# Altium integrated library Analog Devices Data Converters Analog-to-Digital Converters.IntLib: 2404 symbols (part 98 of 346)
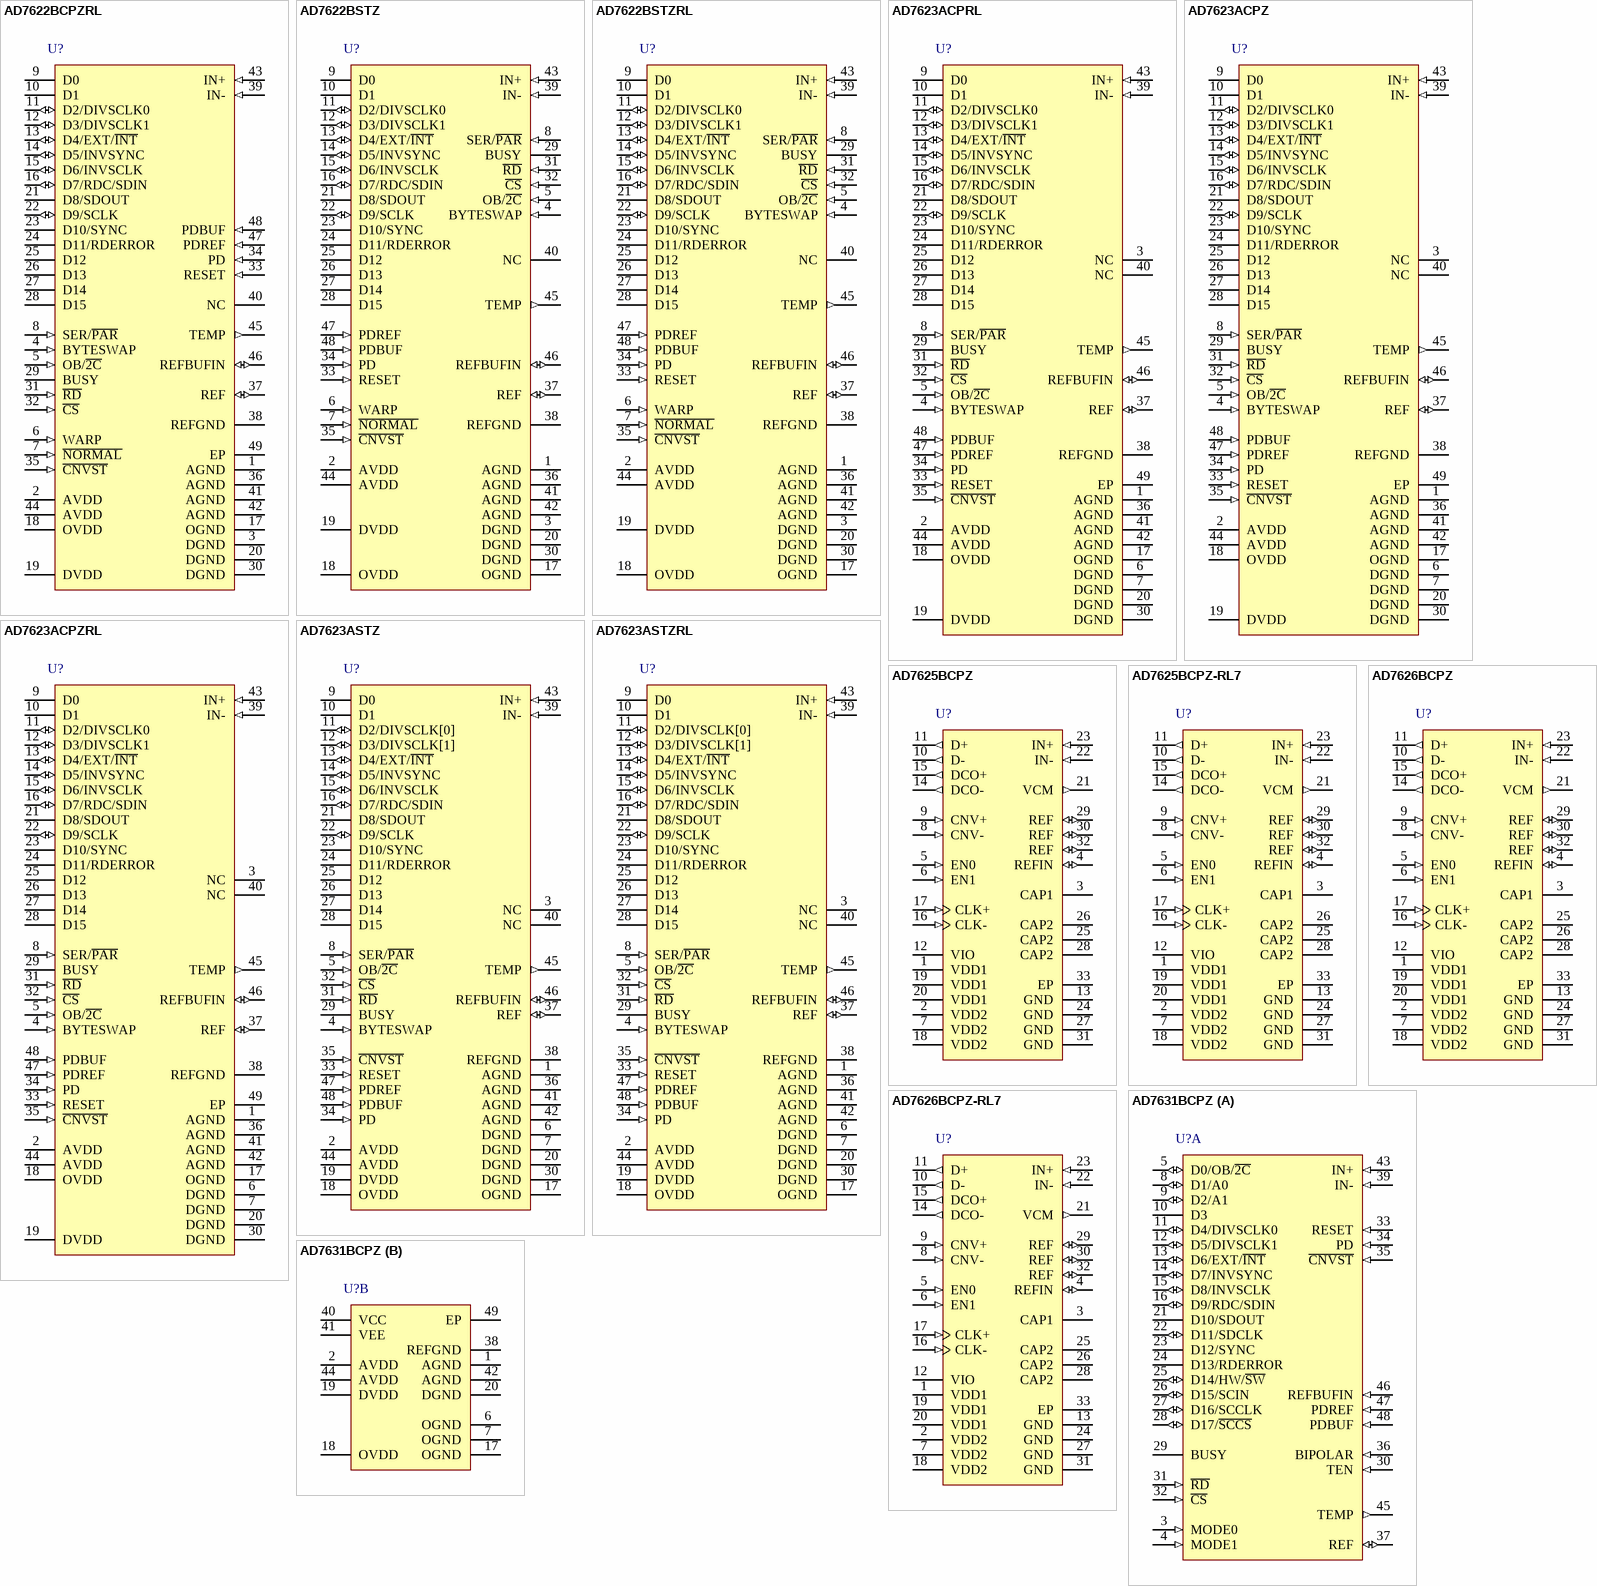
[diagram p209: symbols AD7622BCPZRL to AD7631BCPZ]

## AD7626BCPZ
designator U?
Single 16-Bit PulSAR Analog-to-Digital Converter with LVDS, Serial Interface, 10MSPS, -40 to +85 degC, CP-32-3, Pb-Free, Tray; Generic Part Number: AD7626; Manufacturer: Analog Devices; PartNumber: AD7626BCPZ; Resolution (Bits): 16; Channels: 1; Throughput Rate (SPS): 10M; DatasheetVersion: Rev.A; PackageVersion: Jan-2005; PackageReference: CP-32-3; PackageDescription: 32-Lead Lead Frame Chip Scale Package [LFCSP_VQ] 5 x 5 mm Body, Very Thin Quad; Supplier 1: Digi-Key; Supplier Part Number 1: AD7626BCPZ-ND; Supplier 2: Newark; Supplier Part Number 2: 33R2709; Supplier 3: Mouser; Supplier Part Number 3: 584-AD7626BCPZ; Interface: LVDS, Ser; RoHS: Y; Packing: Tray; Mounting Technology: Surface Mount; Code_JEDEC: MO-220-VHHD-2; ComponentLink1Description: Manufacturer URL; ComponentLink1URL: http://www.analog.com/en/index.html; ComponentLink2Description: Datasheet; ComponentLink2URL: http://www.analog.com/static/imported-files/data_sheets/AD7626.pdf; ComponentLink3Description: Package Specification; ComponentLink3URL: http://www.analog.com/static/imported-files/packages/32877413525511988CP_32_3.pdf; ComponentLink4Description: Product URL; ComponentLink4URL: http://www.analog.com/en/analog-to-digital-converters/ad-converters/ad7626/products/product.html
footprint CP-32-3_N (QFN, 32-Leads, Body 5x5mm, Pitch 0.5mm, Thermal Pad 3.3x3.3mm, IPC Medium Density)
footprint CP-32-3_L (QFN, 32-Leads, Body 5x5mm, Pitch 0.5mm, Thermal Pad 3.3x3.3mm, IPC High Density)
footprint CP-32-3_M (QFN, 32-Leads, Body 5x5mm, Pitch 0.5mm, Thermal Pad 3.3x3.3mm, IPC Low Density)
pins: 1 VDD1 (power) "Analog 5 V Supply. Decouple the 5 V supply with a 100 nF capacitor.", 2 VDD2 (power) "Analog 2.5 V Supply. Decouple this pin with a 100 nF capacitor. The 2.5 V supply source should", 3 CAP1 "Connect this pin to a 10 nF capacitor.", 4 REFIN (io) "Prebuffer Reference Voltage. When using the internal reference, this pin outputs the band gap voltage and is nominally at 1.2 V. It can be overdriven with an external reference voltage such as the ADR280.In either internal (See Datasheet)", 5 EN0 (in) "Enable. Operates from 2.5 V logic. The logic levels of these pins set the operation of the device as follows:EN1 = 0, EN0 = 0: power-down mode.EN1 = 0, EN0 = 1: external 1.2 V reference applied to the REFIN pin required.EN1 (See Datasheet)", 6 EN1 (in) "Enable. Operates from 2.5 V logic. The logic levels of these pins set the operation of the device as follows:EN1 = 0, EN0 = 0: power-down mode.EN1 = 0, EN0 = 1: external 1.2 V reference applied to the REFIN pin required.EN1 (See Datasheet)", 7 VDD2 (power) "Digital 2.5 V Supply. Decouple this pin with a 100 nF capacitor.", 8 CNV- (in) "Convert Input. These pins act as the conversion control pin. On the rising edge of these pins, the analog inputs are sampled and a conversion cycle is initiated. CNV+ works as a CMOS input when CNV- is grounded; otherwise, (See Datasheet)", 9 CNV+ (in) "Convert Input. These pins act as the conversion control pin. On the rising edge of these pins, the analog inputs are sampled and a conversion cycle is initiated. CNV+ works as a CMOS input when CNV- is grounded; otherwise, (See Datasheet)", 10 D- (out) "LVDS Data Outputs. The conversion data is output serially on these pins.", 11 D+ (out) "LVDS Data Outputs. The conversion data is output serially on these pins.", 12 VIO (power) "Input/Output Interface Supply. Use a 2.5 V supply and decouple this pin with a 100 nF capacitor.", 13 GND (power) "Ground. Return path for the 100 nF capacitor connected to Pin 12.", 14 DCO- (out) "LVDS Buffered Clock Outputs. When DCO+ is grounded, the self-clocked interface mode is selected.In this mode, the 16-bit results on D are preceded by an initial 0 (which is output at the end of the previous conversion), (See Datasheet)", 15 DCO+ (out) "LVDS Buffered Clock Outputs. When DCO+ is grounded, the self-clocked interface mode is selected.In this mode, the 16-bit results on D are preceded by an initial 0 (which is output at the end of the previous conversion), (See Datasheet)", 16 CLK- (in) "LVDS Clock Inputs. This clock shifts out the conversion results on the falling edge of CLK+.", 17 CLK+ (in) "LVDS Clock Inputs. This clock shifts out the conversion results on the falling edge of CLK+.", 18 VDD2 (power) "Analog 2.5 V Supply. Decouple this pin with a 100 nF capacitor.", 19 VDD1 (power) "Analog 5 V Supply. Isolate these pins from Pin 1 with a ferrite bead and decouple them with a 100 nF capacitor.", 20 VDD1 (power) "Analog 5 V Supply. Isolate these pins from Pin 1 with a ferrite bead and decouple them with a 100 nF capacitor.", 21 VCM (out) "Common-Mode Output. When using any reference scheme, this pin produces one-half the voltage present on the REF pin, which can be useful for driving the common mode of the input amplifiers.", 22 IN- (in) "Differential Negative Analog Input. Referenced to and must be driven 180degrees out of phase with IN+.", 23 IN+ (in) "Differential Positive Analog Input. Referenced to and must be driven 180degrees out of phase with IN-.", 24 GND (power) "Ground.", 25 CAP2 "Connect all three CAP2 pins together and decouple them with the shortest trace possible to a single 10 uF, low ESR, low ESL capacitor. The other side of the capacitor must be placed close to Pin 27 (GND).", 26 CAP2 "Connect all three CAP2 pins together and decouple them with the shortest trace possible to a single 10 uF, low ESR, low ESL capacitor. The other side of the capacitor must be placed close to Pin 27 (GND).", 27 GND (power) "Ground. Return path for the 10 uF capacitor connected to Pin 25, Pin 26, and Pin 28.", 28 CAP2 "Connect all three CAP2 pins together and decouple them with the shortest trace possible to a single 10 uF, low ESR, low ESL capacitor. The other side of the capacitor must be placed close to Pin 27 (GND).", 29 REF (io) "Buffered Reference Voltage. When using the internal reference or the 1.2 V external reference (REFIN input), the 4.096 V system reference is produced at this pin. When using an external reference, such as the ADR434 or the (See Datasheet)", 30 REF (io) "Buffered Reference Voltage. When using the internal reference or the 1.2 V external reference (REFIN input), the 4.096 V system reference is produced at this pin. When using an external reference, such as the ADR434 or the (See Datasheet)", 31 GND (power) "Ground. Return path for the 10 uF capacitor connected to Pin 29, Pin 30, and Pin 32.", 32 REF (io) "Buffered Reference Voltage. When using the internal reference or the 1.2 V external reference (REFIN input), the 4.096 V system reference is produced at this pin. When using an external reference, such as the ADR434 or the (See Datasheet)", 33 EP (power) "The exposed pad is located on the underside of the package. Connect the exposed pad to the ground plane of the PCB using multiple vias. See the Exposed Paddle section for more information."

## AD7626BCPZ-RL7
designator U?
Single 16-Bit PulSAR Analog-to-Digital Converter with LVDS, Serial Interface, 10MSPS, -40 to +85 degC, CP-32-3, Pb-Free, Reel; Generic Part Number: AD7626; Manufacturer: Analog Devices; PartNumber: AD7626BCPZ-RL7; Resolution (Bits): 16; Channels: 1; Throughput Rate (SPS): 10M; DatasheetVersion: Rev.A; PackageVersion: Jan-2005; PackageReference: CP-32-3; PackageDescription: 32-Lead Lead Frame Chip Scale Package [LFCSP_VQ] 5 x 5 mm Body, Very Thin Quad; Supplier 1: Digi-Key; Supplier Part Number 1: AD7626BCPZ-RL7-ND; Supplier 2: Newark; Supplier Part Number 2: 33R2710; Supplier 3: Mouser; Supplier Part Number 3: 584-AD7626BCPZ-R7; Interface: LVDS, Ser; RoHS: Y; Packing: Reel; Mounting Technology: Surface Mount; Code_JEDEC: MO-220-VHHD-2; ComponentLink1Description: Manufacturer URL; ComponentLink1URL: http://www.analog.com/en/index.html; ComponentLink2Description: Datasheet; ComponentLink2URL: http://www.analog.com/static/imported-files/data_sheets/AD7626.pdf; ComponentLink3Description: Package Specification; ComponentLink3URL: http://www.analog.com/static/imported-files/packages/32877413525511988CP_32_3.pdf; ComponentLink4Description: Product URL; ComponentLink4URL: http://www.analog.com/en/analog-to-digital-converters/ad-converters/ad7626/products/product.html
footprint CP-32-3_N (QFN, 32-Leads, Body 5x5mm, Pitch 0.5mm, Thermal Pad 3.3x3.3mm, IPC Medium Density)
footprint CP-32-3_L (QFN, 32-Leads, Body 5x5mm, Pitch 0.5mm, Thermal Pad 3.3x3.3mm, IPC High Density)
footprint CP-32-3_M (QFN, 32-Leads, Body 5x5mm, Pitch 0.5mm, Thermal Pad 3.3x3.3mm, IPC Low Density)
pins: 1 VDD1 (power) "Analog 5 V Supply. Decouple the 5 V supply with a 100 nF capacitor.", 2 VDD2 (power) "Analog 2.5 V Supply. Decouple this pin with a 100 nF capacitor. The 2.5 V supply source should", 3 CAP1 "Connect this pin to a 10 nF capacitor.", 4 REFIN (io) "Prebuffer Reference Voltage. When using the internal reference, this pin outputs the band gap voltage and is nominally at 1.2 V. It can be overdriven with an external reference voltage such as the ADR280.In either internal (See Datasheet)", 5 EN0 (in) "Enable. Operates from 2.5 V logic. The logic levels of these pins set the operation of the device as follows:EN1 = 0, EN0 = 0: power-down mode.EN1 = 0, EN0 = 1: external 1.2 V reference applied to the REFIN pin required.EN1 (See Datasheet)", 6 EN1 (in) "Enable. Operates from 2.5 V logic. The logic levels of these pins set the operation of the device as follows:EN1 = 0, EN0 = 0: power-down mode.EN1 = 0, EN0 = 1: external 1.2 V reference applied to the REFIN pin required.EN1 (See Datasheet)", 7 VDD2 (power) "Digital 2.5 V Supply. Decouple this pin with a 100 nF capacitor.", 8 CNV- (in) "Convert Input. These pins act as the conversion control pin. On the rising edge of these pins, the analog inputs are sampled and a conversion cycle is initiated. CNV+ works as a CMOS input when CNV- is grounded; otherwise, (See Datasheet)", 9 CNV+ (in) "Convert Input. These pins act as the conversion control pin. On the rising edge of these pins, the analog inputs are sampled and a conversion cycle is initiated. CNV+ works as a CMOS input when CNV- is grounded; otherwise, (See Datasheet)", 10 D- (out) "LVDS Data Outputs. The conversion data is output serially on these pins.", 11 D+ (out) "LVDS Data Outputs. The conversion data is output serially on these pins.", 12 VIO (power) "Input/Output Interface Supply. Use a 2.5 V supply and decouple this pin with a 100 nF capacitor.", 13 GND (power) "Ground. Return path for the 100 nF capacitor connected to Pin 12.", 14 DCO- (out) "LVDS Buffered Clock Outputs. When DCO+ is grounded, the self-clocked interface mode is selected.In this mode, the 16-bit results on D are preceded by an initial 0 (which is output at the end of the previous conversion), (See Datasheet)", 15 DCO+ (out) "LVDS Buffered Clock Outputs. When DCO+ is grounded, the self-clocked interface mode is selected.In this mode, the 16-bit results on D are preceded by an initial 0 (which is output at the end of the previous conversion), (See Datasheet)", 16 CLK- (in) "LVDS Clock Inputs. This clock shifts out the conversion results on the falling edge of CLK+.", 17 CLK+ (in) "LVDS Clock Inputs. This clock shifts out the conversion results on the falling edge of CLK+.", 18 VDD2 (power) "Analog 2.5 V Supply. Decouple this pin with a 100 nF capacitor.", 19 VDD1 (power) "Analog 5 V Supply. Isolate these pins from Pin 1 with a ferrite bead and decouple them with a 100 nF capacitor.", 20 VDD1 (power) "Analog 5 V Supply. Isolate these pins from Pin 1 with a ferrite bead and decouple them with a 100 nF capacitor.", 21 VCM (out) "Common-Mode Output. When using any reference scheme, this pin produces one-half the voltage present on the REF pin, which can be useful for driving the common mode of the input amplifiers.", 22 IN- (in) "Differential Negative Analog Input. Referenced to and must be driven 180degrees out of phase with IN+.", 23 IN+ (in) "Differential Positive Analog Input. Referenced to and must be driven 180degrees out of phase with IN-.", 24 GND (power) "Ground.", 25 CAP2 "Connect all three CAP2 pins together and decouple them with the shortest trace possible to a single 10 uF, low ESR, low ESL capacitor. The other side of the capacitor must be placed close to Pin 27 (GND).", 26 CAP2 "Connect all three CAP2 pins together and decouple them with the shortest trace possible to a single 10 uF, low ESR, low ESL capacitor. The other side of the capacitor must be placed close to Pin 27 (GND).", 27 GND (power) "Ground. Return path for the 10 uF capacitor connected to Pin 25, Pin 26, and Pin 28.", 28 CAP2 "Connect all three CAP2 pins together and decouple them with the shortest trace possible to a single 10 uF, low ESR, low ESL capacitor. The other side of the capacitor must be placed close to Pin 27 (GND).", 29 REF (io) "Buffered Reference Voltage. When using the internal reference or the 1.2 V external reference (REFIN input), the 4.096 V system reference is produced at this pin. When using an external reference, such as the ADR434 or the (See Datasheet)", 30 REF (io) "Buffered Reference Voltage. When using the internal reference or the 1.2 V external reference (REFIN input), the 4.096 V system reference is produced at this pin. When using an external reference, such as the ADR434 or the (See Datasheet)", 31 GND (power) "Ground. Return path for the 10 uF capacitor connected to Pin 29, Pin 30, and Pin 32.", 32 REF (io) "Buffered Reference Voltage. When using the internal reference or the 1.2 V external reference (REFIN input), the 4.096 V system reference is produced at this pin. When using an external reference, such as the ADR434 or the (See Datasheet)", 33 EP (power) "The exposed pad is located on the underside of the package. Connect the exposed pad to the ground plane of the PCB using multiple vias. See the Exposed Paddle section for more information."

## AD7631BCPZ
designator U?
Single 18-Bit Differential Programmable PulSAR Analog-to-Digital Converter with Parallel, Serial, SPI Interface, 250KSPS, -40 to +85 degC, CP-48-1, Pb-Free, Tray; Generic Part Number: AD7631; Manufacturer: Analog Devices; PartNumber: AD7631BCPZ; Resolution (Bits): 18; Channels: 1; Throughput Rate (SPS): 250K; Interface: Par, Ser, SPI; DatasheetVersion: Rev.A; PackageVersion: Jan-2005; PackageReference: CP-48-1; PackageDescription: 48-Lead Lead Frame Chip Scale Package [LFCSP_VQ] 7 x 7 mm Body, Very Thin Quad; Supplier 1: Digi-Key; Supplier Part Number 1: AD7631BCPZ-ND; Supplier 2: Mouser; Supplier Part Number 2: 584-AD7631BCPZ; RoHS: Y; Packing: Tray; Mounting Technology: Surface Mount; Code_JEDEC: MO-220-VKKD-2; ComponentLink1Description: Manufacturer URL; ComponentLink1URL: http://www.analog.com/en/index.html; ComponentLink2Description: Datasheet; ComponentLink2URL: http://www.analog.com/static/imported-files/data_sheets/AD7631.pdf; ComponentLink3Description: Package Specification; ComponentLink3URL: http://www.analog.com/static/imported-files/packages/PKG_PDF/LFCSP(CP)/CP-48/CP_48_1.pdf; ComponentLink4Description: Product URL; ComponentLink4URL: http://www.analog.com/en/analog-to-digital-converters/ad-converters/ad7631/products/product.html
footprint CP-48-1_N (QFN, 48-Leads, Body 7x7mm, Pitch 0.5mm, Thermal Pad 5.1x5.1mm, IPC Medium Density)
footprint CP-48-1_L (QFN, 48-Leads, Body 7x7mm, Pitch 0.5mm, Thermal Pad 5.1x5.1mm, IPC High Density)
footprint CP-48-1_M (QFN, 48-Leads, Body 7x7mm, Pitch 0.5mm, Thermal Pad 5.1x5.1mm, IPC Low Density)
part A pins: 3 MODE0 (in) "Data Input/Output Interface Mode Selection.", 4 MODE1 (in) "Data Input/Output Interface Mode Selection.", 5 D0/OB/~{2C} (io) "In 18-bit parallel mode, this output is used as Bit 0 of the parallel port data output bus, and the data  coding is straight binary. In all other modes, this pin allows the choice of straight binary or twos  complement.   (See Datasheet)", 8 D1/A0 (io) "When MODE[1:0] = 0, this pin is Bit 1 of the parallel port data output bus. In all other modes, this input pin controls the form in which data is output as shown in Table 7.", 9 D2/A1 (io) "When MODE[1:0] = 0, this pin is Bit 2 of the parallel port data output bus.  When MODE[1:0] = 1 or 2, this input pin controls the form in which data is output as shown in Table 7.", 10 D3 (hiz) "When MODE[1:0] = 0, 1, or 2, this output is used as Bit 3 of the parallel port data output bus. This pin is always an output, regardless of the interface mode.", 11 D4/DIVSCLK0 (io) "When MODE[1:0] = 0, 1, or 2, this pin is Bit 4 of the parallel port data output bus.When MODE[1:0] = 3, serial data clock division selection. When using serial master read after convert  mode (EXT/I\N\T\ = low, RDC/SDIN = (See Datasheet)", 12 D5/DIVSCLK1 (io) "When MODE[1:0] = 0, 1, or 2, this pin is Bit 5 of the parallel port data output bus.When MODE[1:0] = 3, serial data clock division selection. When using serial master read after convert  mode (EXT/I\N\T\ = low, RDC/SDIN = (See Datasheet)", 13 D6/EXT/~{INT} (io) "When MODE[1:0] = 0, 1, or 2, this output is used as Bit 6 of the parallel port data output bus.When MODE[1:0] = 3, Serial Data Clock Source Select. In serial mode, this input is used to select the  internally generated (See Datasheet)", 14 D7/INVSYNC (io) "When MODE[1:0] = 0, 1, or 2, this output is used as Bit 7 of the parallel port data output bus.When MODE[1:0] = 3, Serial Data Invert Sync Select. In serial master mode (MODE[1:0] = 3,   EXT/I\N\T\ = low), this input is used (See Datasheet)", 15 D8/INVSCLK (io) "When MODE[1:0] = 0, 1, or 2, this output is used as Bit 8 of the parallel port data output bus. When MODE[1:0] = 3, Invert SDCLK/SCCLK Select. This input is used to invert both SDCLK and SCCLK. When INVSCLK = low, the rising (See Datasheet)", 16 D9/RDC/SDIN (io) "When MODE[1:0] = 0, 1, or 2, this output is used as Bit 9 of the parallel port data output bus. When MODE[1:0] = 3, Serial Data Read During Convert. In serial master mode (MODE[1:0] = 3, EXT/I\N\T\ = low), RDC is used to (See Datasheet)", 21 D10/SDOUT (hiz) "When MODE[1:0] = 0, 1, or 2, this output is used as Bit 10 of the parallel port data output bus.When MODE[1:0] = 3, Serial Data Output. In all serial modes, this pin is used as the serial data output synchronized to SDCLK. (See Datasheet)", 22 D11/SDCLK (io) "When MODE[1:0] = 0, 1, or 2, this output is used as Bit 11 of the parallel port data output bus. When MODE[1:0] = 3, Serial Data Clock. In all serial modes, this pin is used as the serial data clock input or output, (See Datasheet)", 23 D12/SYNC (hiz) "When MODE[1:0] = 0, 1, or 2, this output is used as Bit 12 of the parallel port data output bus. When MODE[1:0] = 3, Serial Data Frame Synchronization. In serial master mode (MODE[1:0] = 3, EXT/I\N\T\= low), this output is (See Datasheet)", 24 D13/RDERROR (hiz) "When MODE[1:0] = 0, 1, or 2, this output is used as Bit 13 of the parallel port data output bus. When MODE[1:0] = 3, Serial Data Read Error. In serial slave mode (MODE[1:0] = 3, EXT/I\N\T\ = high), this output is used as an (See Datasheet)", 25 D14/HW/~{SW} (io) "When MODE[1:0] = 0, 1, or 2, this output is used as Bit 14 of the parallel port data output bus. When MODE[1:0] = 3, Serial Configuration Hardware/Software Select. In serial mode, this input is used to configure the AD7631 (See Datasheet)", 26 D15/SCIN (io) "When MODE[1:0] = 0, 1, or 2, this output is used as Bit 15 of the parallel port data output bus. When MODE[1:0] = 3, Serial Configuration Data Input. In serial software configuration mode (HW/S\W\ = low), this input is used (See Datasheet)", 27 D16/SCCLK (io) "When MODE[1:0] = 0, 1, or 2, this output is used as Bit 16 of the parallel port data output bus. When MODE[1:0] = 3, Serial Configuration Clock. In serial software configuration mode (HW/S\W\ = low) this input is used to (See Datasheet)", 28 D17/~{SCCS} (io) "When MODE[1:0] = 0, 1, or 2, this output is used as Bit 17 of the parallel port data output bus. When MODE[1:0] = 3, Serial Configuration Chip Select. In serial software configuration mode (HW/S\W\ = low), this input enables (See Datasheet)", 29 BUSY (hiz) "Busy Output. Transitions high when a conversion is started and remains high until the conversion is complete and the data is latched into the on-chip shift register. The falling edge of BUSY can be used as a data-ready clock (See Datasheet)", 30 TEN (in) "Input Range Select. Used in conjunction with BIPOLAR per the following.", 31 ~{RD} (in) "Read Data. When C\S\ and R\D\ are both low, the interface parallel or serial output bus is enabled.", 32 ~{CS} (in) "Chip Select. When C\S\ and R\D\ are both low, the interface parallel or serial output bus is enabled. C\S\ is also used to gate the external clock in slave serial mode (not used for serial configurable port).", 33 RESET (in) "Reset Input. When high, reset the AD7631. Current conversion, if any, is aborted. The falling edge of RESET resets the data outputs to all zeros (with OB/2\C\ = high) and clears the configuration register. See the section. (See Datasheet)", 34 PD (in) "Power-Down Input. When PD = high, power down the ADC. Power consumption is reduced and conversions are inhibited after the current one is completed. The digital interface remains active during power down.", 35 ~{CNVST} (in) "Conversion Start. A falling edge on C\N\V\S\T\ puts the internal sample-and-hold into the hold state and initiates a conversion.", 36 BIPOLAR (in) "Input Range Select. See description for Pin 30.", 37 REF (io) "Reference Input/Output. When PDREF/PDBUF = low, the internal reference and buffer are enabled producing 5 V on this pin. When PDREF/PDBUF = high, the internal reference and buffer are disabled, allowing an externally (See Datasheet)", 39 IN- (in) "Analog Input. Referenced to IN+. In the 0 V to 5 V input range, IN- is between 0 V and VREF V centered about VREF/2. In the 0 V to 10 V range, IN- is between 0 V and 2 VREF V centered about VREF. In the +/-5 V and +/-10 V (See Datasheet)", 43 IN+ (in) "Analog Input. Referenced to IN-. In the 0 V to 5 V input range, IN+ is between 0 V and VREF V centered about VREF/2. In the 0 V to 10 V range, IN+ is between 0 V and 2 VREF V centered about VREF. In the +/-5 V and +/-10 V (See Datasheet)", 45 TEMP (out) "Temperature Sensor Analog Output. When the internal reference is enabled (PDREF = PDBUF = low), this pin outputs a voltage proportional to the temperature of the AD7631. See the Voltage Reference Input/Output section.", 46 REFBUFIN (in) "Reference Buffer Input. When using an external reference with the internal reference buffer (PDBUF = low, PDREF = high), applying 2.5 V on this pin produces 5 V on the REF pin. See the Voltage Reference Input/Output section.", 47 PDREF (in) "Internal Reference Power-Down Input. When low, the internal reference is enabled. When high, the internal reference is powered down, and an external reference must be used.", 48 PDBUF (in) "Internal Reference Buffer Power-Down Input. When low, the buffer is enabled (must be low when using internal reference). When high, the buffer is powered down."
part B pins: 1 AGND (power) "Analog Power Ground Pins. Ground reference point for all analog I/O. All analog I/O should be  referenced to AGND and should be connected to the analog ground plane of the system. In addition,   the AGND, DGND, and OGND (See Datasheet)", 2 AVDD (power) "Analog Power Pins. Nominally 4.75 V to 5.25 V and decoupled with 10 uF and 100 nF capacitors.", 6 OGND (power) "Input/Output Interface Digital Power Ground. Ground reference point for digital outputs. Should be connected to the system digital ground ideally at the same potential as AGND and DGND.", 7 OGND (power) "Input/Output Interface Digital Power Ground. Ground reference point for digital outputs. Should be connected to the system digital ground ideally at the same potential as AGND and DGND.", 17 OGND (power) "Input/Output Interface Digital Power Ground. Ground reference point for digital outputs. Should   be connected to the system digital ground ideally at the same potential as AGND and DGND.", 18 OVDD (power) "Input/Output Interface Digital Power. Nominally at the same supply as the supply of the host interface 2.5 V, 3 V, or 5 V and decoupled with 10 uF and 100 nF capacitors.", 19 DVDD (power) "Digital Power. Nominally at 4.75 V to 5.25 V and decoupled with 10 uF and 100 nF capacitors. Can be supplied from AVDD.", 20 DGND (power) "Digital Power Ground. Ground reference point for digital outputs. Should be connected to system digital ground ideally at the same potential as AGND and OGND.", 38 REFGND (power) "Reference Input Analog Ground. Connected to analog ground plane.", 40 VCC (power) "High Voltage Positive Supply. Normally +7 V to +15 V.", 41 VEE (power) "High Voltage Negative Supply. Normally 0 V to -15 V (0 V in unipolar ranges).", 42 AGND (power) "Analog Power Ground Pins. Ground reference point for all analog I/O. All analog I/O should be  referenced to AGND and should be connected to the analog ground plane of the system. In addition,   the AGND, DGND, and OGND (See Datasheet)", 44 AVDD (power) "Analog Power Pins. Nominally 4.75 V to 5.25 V and decoupled with 10 uF and 100 nF capacitors.", 49 EP (power) "Exposed Pad. The exposed pad is not connected internally. It is recommended that the pad be soldered to VEE."

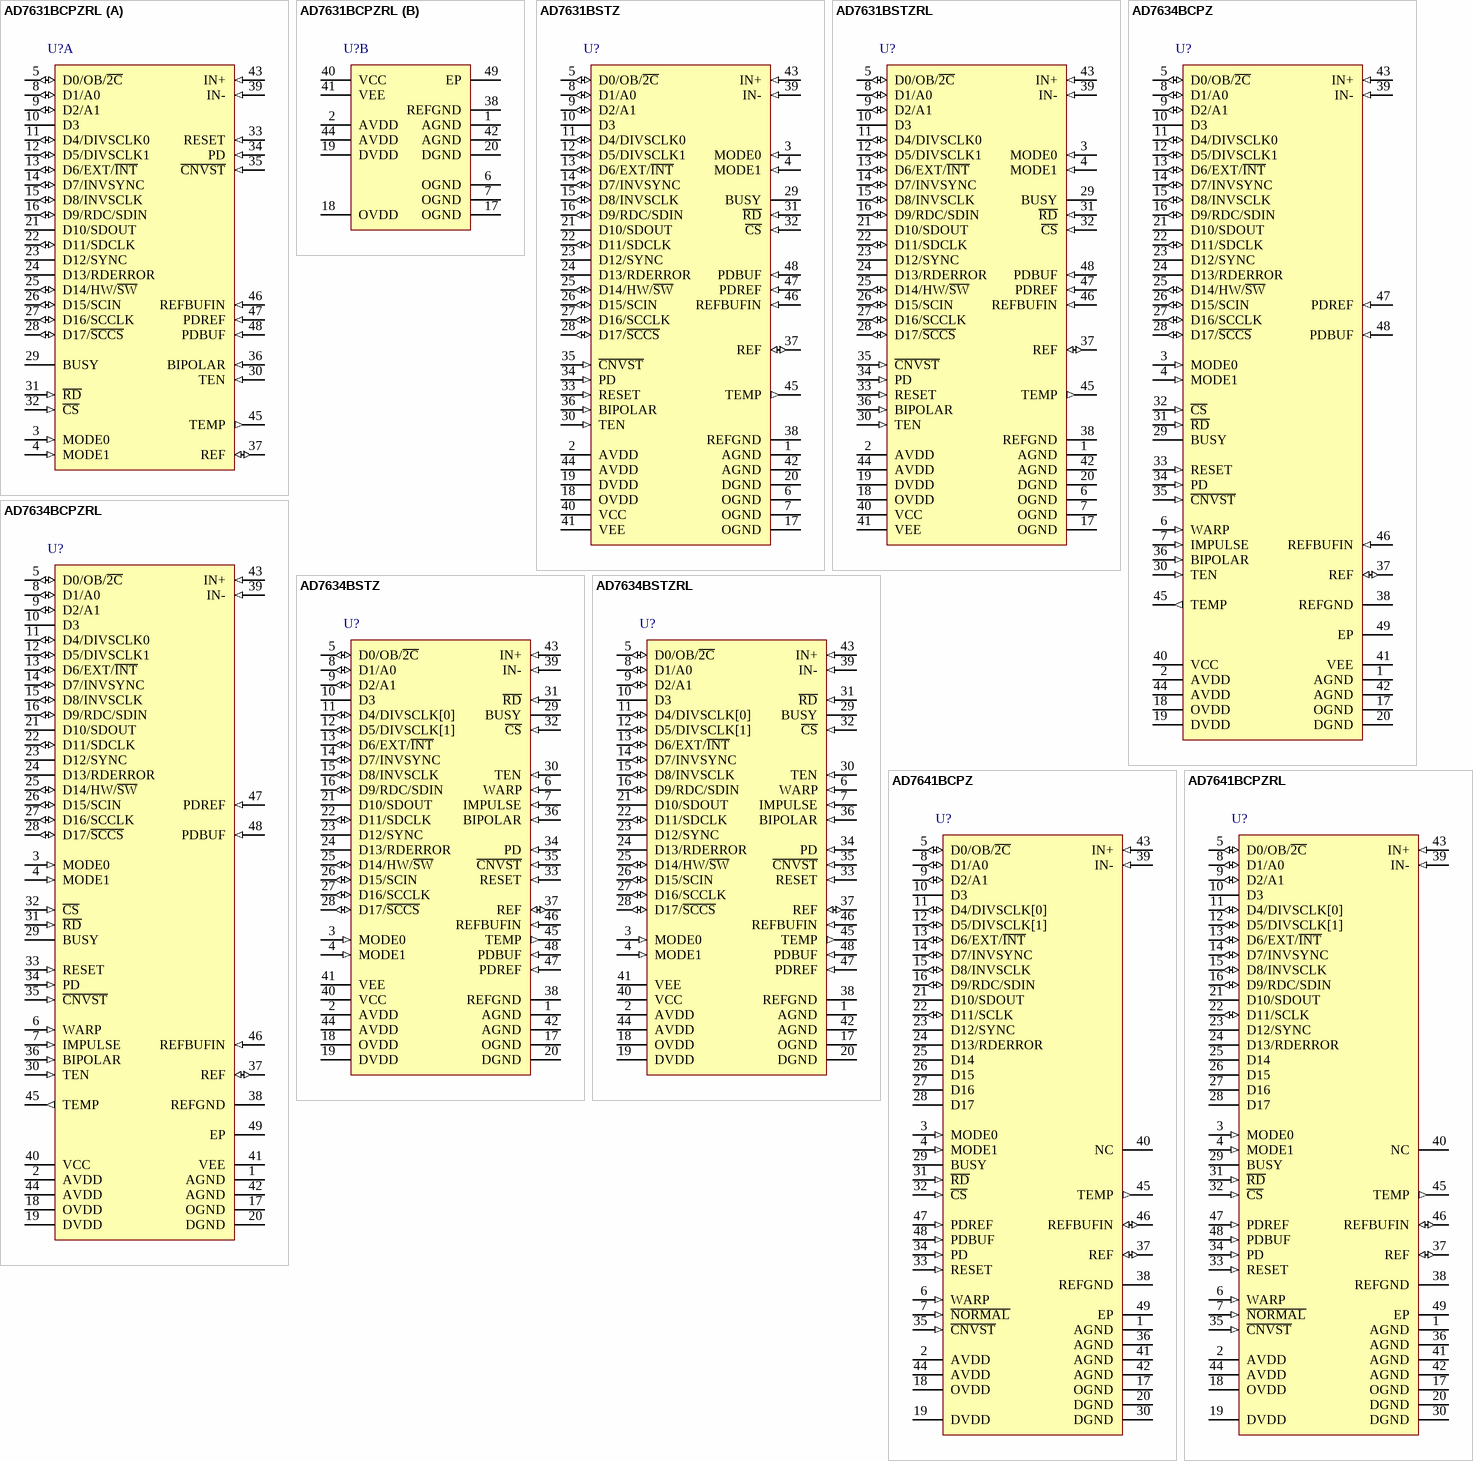
[diagram p32: symbols AD7631BCPZRL to AD7641BCPZRL]

## AD7631BCPZRL
designator U?
Single 18-Bit Differential Programmable PulSAR Analog-to-Digital Converter with Parallel, Serial, SPI Interface, 250KSPS, -40 to +85 degC, CP-48-1, Pb-Free, Reel; Generic Part Number: AD7631; Manufacturer: Analog Devices; PartNumber: AD7631BCPZRL; Resolution (Bits): 18; Channels: 1; Throughput Rate (SPS): 250K; Interface: Par, Ser, SPI; DatasheetVersion: Rev.A; PackageVersion: Jan-2005; PackageReference: CP-48-1; PackageDescription: 48-Lead Lead Frame Chip Scale Package [LFCSP_VQ] 7 x 7 mm Body, Very Thin Quad; Supplier 1: Digi-Key; Supplier Part Number 1: AD7631BCPZRL-ND; Supplier 2: Mouser; Supplier Part Number 2: 584-AD7631BCPZR; RoHS: Y; Packing: Reel; Mounting Technology: Surface Mount; Code_JEDEC: MO-220-VKKD-2; ComponentLink1Description: Manufacturer URL; ComponentLink1URL: http://www.analog.com/en/index.html; ComponentLink2Description: Datasheet; ComponentLink2URL: http://www.analog.com/static/imported-files/data_sheets/AD7631.pdf; ComponentLink3Description: Package Specification; ComponentLink3URL: http://www.analog.com/static/imported-files/packages/PKG_PDF/LFCSP(CP)/CP-48/CP_48_1.pdf; ComponentLink4Description: Product URL; ComponentLink4URL: http://www.analog.com/en/analog-to-digital-converters/ad-converters/ad7631/products/product.html
footprint CP-48-1_N (QFN, 48-Leads, Body 7x7mm, Pitch 0.5mm, Thermal Pad 5.1x5.1mm, IPC Medium Density)
footprint CP-48-1_L (QFN, 48-Leads, Body 7x7mm, Pitch 0.5mm, Thermal Pad 5.1x5.1mm, IPC High Density)
footprint CP-48-1_M (QFN, 48-Leads, Body 7x7mm, Pitch 0.5mm, Thermal Pad 5.1x5.1mm, IPC Low Density)
part A pins: 3 MODE0 (in) "Data Input/Output Interface Mode Selection.", 4 MODE1 (in) "Data Input/Output Interface Mode Selection.", 5 D0/OB/~{2C} (io) "In 18-bit parallel mode, this output is used as Bit 0 of the parallel port data output bus, and the data  coding is straight binary. In all other modes, this pin allows the choice of straight binary or twos  complement.   (See Datasheet)", 8 D1/A0 (io) "When MODE[1:0] = 0, this pin is Bit 1 of the parallel port data output bus. In all other modes, this input pin controls the form in which data is output as shown in Table 7.", 9 D2/A1 (io) "When MODE[1:0] = 0, this pin is Bit 2 of the parallel port data output bus.  When MODE[1:0] = 1 or 2, this input pin controls the form in which data is output as shown in Table 7.", 10 D3 (hiz) "When MODE[1:0] = 0, 1, or 2, this output is used as Bit 3 of the parallel port data output bus. This pin is always an output, regardless of the interface mode.", 11 D4/DIVSCLK0 (io) "When MODE[1:0] = 0, 1, or 2, this pin is Bit 4 of the parallel port data output bus.When MODE[1:0] = 3, serial data clock division selection. When using serial master read after convert  mode (EXT/I\N\T\ = low, RDC/SDIN = (See Datasheet)", 12 D5/DIVSCLK1 (io) "When MODE[1:0] = 0, 1, or 2, this pin is Bit 5 of the parallel port data output bus.When MODE[1:0] = 3, serial data clock division selection. When using serial master read after convert  mode (EXT/I\N\T\ = low, RDC/SDIN = (See Datasheet)", 13 D6/EXT/~{INT} (io) "When MODE[1:0] = 0, 1, or 2, this output is used as Bit 6 of the parallel port data output bus.When MODE[1:0] = 3, Serial Data Clock Source Select. In serial mode, this input is used to select the  internally generated (See Datasheet)", 14 D7/INVSYNC (io) "When MODE[1:0] = 0, 1, or 2, this output is used as Bit 7 of the parallel port data output bus.When MODE[1:0] = 3, Serial Data Invert Sync Select. In serial master mode (MODE[1:0] = 3,   EXT/I\N\T\ = low), this input is used (See Datasheet)", 15 D8/INVSCLK (io) "When MODE[1:0] = 0, 1, or 2, this output is used as Bit 8 of the parallel port data output bus. When MODE[1:0] = 3, Invert SDCLK/SCCLK Select. This input is used to invert both SDCLK and SCCLK. When INVSCLK = low, the rising (See Datasheet)", 16 D9/RDC/SDIN (io) "When MODE[1:0] = 0, 1, or 2, this output is used as Bit 9 of the parallel port data output bus. When MODE[1:0] = 3, Serial Data Read During Convert. In serial master mode (MODE[1:0] = 3, EXT/I\N\T\ = low), RDC is used to (See Datasheet)", 21 D10/SDOUT (hiz) "When MODE[1:0] = 0, 1, or 2, this output is used as Bit 10 of the parallel port data output bus.When MODE[1:0] = 3, Serial Data Output. In all serial modes, this pin is used as the serial data output synchronized to SDCLK. (See Datasheet)", 22 D11/SDCLK (io) "When MODE[1:0] = 0, 1, or 2, this output is used as Bit 11 of the parallel port data output bus. When MODE[1:0] = 3, Serial Data Clock. In all serial modes, this pin is used as the serial data clock input or output, (See Datasheet)", 23 D12/SYNC (hiz) "When MODE[1:0] = 0, 1, or 2, this output is used as Bit 12 of the parallel port data output bus. When MODE[1:0] = 3, Serial Data Frame Synchronization. In serial master mode (MODE[1:0] = 3, EXT/I\N\T\= low), this output is (See Datasheet)", 24 D13/RDERROR (hiz) "When MODE[1:0] = 0, 1, or 2, this output is used as Bit 13 of the parallel port data output bus. When MODE[1:0] = 3, Serial Data Read Error. In serial slave mode (MODE[1:0] = 3, EXT/I\N\T\ = high), this output is used as an (See Datasheet)", 25 D14/HW/~{SW} (io) "When MODE[1:0] = 0, 1, or 2, this output is used as Bit 14 of the parallel port data output bus. When MODE[1:0] = 3, Serial Configuration Hardware/Software Select. In serial mode, this input is used to configure the AD7631 (See Datasheet)", 26 D15/SCIN (io) "When MODE[1:0] = 0, 1, or 2, this output is used as Bit 15 of the parallel port data output bus. When MODE[1:0] = 3, Serial Configuration Data Input. In serial software configuration mode (HW/S\W\ = low), this input is used (See Datasheet)", 27 D16/SCCLK (io) "When MODE[1:0] = 0, 1, or 2, this output is used as Bit 16 of the parallel port data output bus. When MODE[1:0] = 3, Serial Configuration Clock. In serial software configuration mode (HW/S\W\ = low) this input is used to (See Datasheet)", 28 D17/~{SCCS} (io) "When MODE[1:0] = 0, 1, or 2, this output is used as Bit 17 of the parallel port data output bus. When MODE[1:0] = 3, Serial Configuration Chip Select. In serial software configuration mode (HW/S\W\ = low), this input enables (See Datasheet)", 29 BUSY (hiz) "Busy Output. Transitions high when a conversion is started and remains high until the conversion is complete and the data is latched into the on-chip shift register. The falling edge of BUSY can be used as a data-ready clock (See Datasheet)", 30 TEN (in) "Input Range Select. Used in conjunction with BIPOLAR per the following.", 31 ~{RD} (in) "Read Data. When C\S\ and R\D\ are both low, the interface parallel or serial output bus is enabled.", 32 ~{CS} (in) "Chip Select. When C\S\ and R\D\ are both low, the interface parallel or serial output bus is enabled. C\S\ is also used to gate the external clock in slave serial mode (not used for serial configurable port).", 33 RESET (in) "Reset Input. When high, reset the AD7631. Current conversion, if any, is aborted. The falling edge of RESET resets the data outputs to all zeros (with OB/2\C\ = high) and clears the configuration register. See the section. (See Datasheet)", 34 PD (in) "Power-Down Input. When PD = high, power down the ADC. Power consumption is reduced and conversions are inhibited after the current one is completed. The digital interface remains active during power down.", 35 ~{CNVST} (in) "Conversion Start. A falling edge on C\N\V\S\T\ puts the internal sample-and-hold into the hold state and initiates a conversion.", 36 BIPOLAR (in) "Input Range Select. See description for Pin 30.", 37 REF (io) "Reference Input/Output. When PDREF/PDBUF = low, the internal reference and buffer are enabled producing 5 V on this pin. When PDREF/PDBUF = high, the internal reference and buffer are disabled, allowing an externally (See Datasheet)", 39 IN- (in) "Analog Input. Referenced to IN+. In the 0 V to 5 V input range, IN- is between 0 V and VREF V centered about VREF/2. In the 0 V to 10 V range, IN- is between 0 V and 2 VREF V centered about VREF. In the +/-5 V and +/-10 V (See Datasheet)", 43 IN+ (in) "Analog Input. Referenced to IN-. In the 0 V to 5 V input range, IN+ is between 0 V and VREF V centered about VREF/2. In the 0 V to 10 V range, IN+ is between 0 V and 2 VREF V centered about VREF. In the +/-5 V and +/-10 V (See Datasheet)", 45 TEMP (out) "Temperature Sensor Analog Output. When the internal reference is enabled (PDREF = PDBUF = low), this pin outputs a voltage proportional to the temperature of the AD7631. See the Voltage Reference Input/Output section.", 46 REFBUFIN (in) "Reference Buffer Input. When using an external reference with the internal reference buffer (PDBUF = low, PDREF = high), applying 2.5 V on this pin produces 5 V on the REF pin. See the Voltage Reference Input/Output section.", 47 PDREF (in) "Internal Reference Power-Down Input. When low, the internal reference is enabled. When high, the internal reference is powered down, and an external reference must be used.", 48 PDBUF (in) "Internal Reference Buffer Power-Down Input. When low, the buffer is enabled (must be low when using internal reference). When high, the buffer is powered down."
part B pins: 1 AGND (power) "Analog Power Ground Pins. Ground reference point for all analog I/O. All analog I/O should be  referenced to AGND and should be connected to the analog ground plane of the system. In addition,   the AGND, DGND, and OGND (See Datasheet)", 2 AVDD (power) "Analog Power Pins. Nominally 4.75 V to 5.25 V and decoupled with 10 uF and 100 nF capacitors.", 6 OGND (power) "Input/Output Interface Digital Power Ground. Ground reference point for digital outputs. Should be connected to the system digital ground ideally at the same potential as AGND and DGND.", 7 OGND (power) "Input/Output Interface Digital Power Ground. Ground reference point for digital outputs. Should be connected to the system digital ground ideally at the same potential as AGND and DGND.", 17 OGND (power) "Input/Output Interface Digital Power Ground. Ground reference point for digital outputs. Should   be connected to the system digital ground ideally at the same potential as AGND and DGND.", 18 OVDD (power) "Input/Output Interface Digital Power. Nominally at the same supply as the supply of the host interface 2.5 V, 3 V, or 5 V and decoupled with 10 uF and 100 nF capacitors.", 19 DVDD (power) "Digital Power. Nominally at 4.75 V to 5.25 V and decoupled with 10 uF and 100 nF capacitors. Can be supplied from AVDD.", 20 DGND (power) "Digital Power Ground. Ground reference point for digital outputs. Should be connected to system digital ground ideally at the same potential as AGND and OGND.", 38 REFGND (power) "Reference Input Analog Ground. Connected to analog ground plane.", 40 VCC (power) "High Voltage Positive Supply. Normally +7 V to +15 V.", 41 VEE (power) "High Voltage Negative Supply. Normally 0 V to -15 V (0 V in unipolar ranges).", 42 AGND (power) "Analog Power Ground Pins. Ground reference point for all analog I/O. All analog I/O should be  referenced to AGND and should be connected to the analog ground plane of the system. In addition,   the AGND, DGND, and OGND (See Datasheet)", 44 AVDD (power) "Analog Power Pins. Nominally 4.75 V to 5.25 V and decoupled with 10 uF and 100 nF capacitors.", 49 EP (power) "Exposed Pad. The exposed pad is not connected internally. It is recommended that the pad be soldered to VEE."

## AD7631BSTZ
designator U?
Single 18-Bit Differential Programmable PulSAR Analog-to-Digital Converter with Parallel, Serial, SPI Interface, 250KSPS, -40 to +85 degC, ST-48, Pb-Free, Tray; Generic Part Number: AD7631; Manufacturer: Analog Devices; PartNumber: AD7631BSTZ; Resolution (Bits): 18; Channels: 1; Throughput Rate (SPS): 250K; Interface: Par, Ser, SPI; DatasheetVersion: Rev.A; PackageVersion: revA; PackageReference: ST-48; PackageDescription: 48-Pin Thin Quad Flat Pack 0.5 mm Pitch; Supplier 1: Digi-Key; Supplier Part Number 1: AD7631BSTZ-ND; Supplier 2: Newark; Supplier Part Number 2: 15P0823; Supplier 3: Mouser; Supplier Part Number 3: 584-AD7631BSTZ; RoHS: Y; Packing: Tray; Mounting Technology: Surface Mount; ComponentLink1Description: Manufacturer URL; ComponentLink1URL: http://www.analog.com/en/index.html; ComponentLink2Description: Datasheet; ComponentLink2URL: http://www.analog.com/static/imported-files/data_sheets/AD7631.pdf; ComponentLink3Description: Package Specification; ComponentLink3URL: http://www.analog.com/static/imported-files/packages/PKG_PDF/LQFP%28ST%29/ST_48.pdf; ComponentLink4Description: Product URL; ComponentLink4URL: http://www.analog.com/en/analog-to-digital-converters/ad-converters/ad7631/products/product.html
footprint ST-48_N (Thin QFP, 48-Leads, Body 7x7mm, Pitch 0.5mm, IPC Medium Density)
footprint ST-48_L (Thin QFP, 48-Leads, Body 7x7mm, Pitch 0.5mm, IPC High Density)
footprint ST-48_M (Thin QFP, 48-Leads, Body 7x7mm, Pitch 0.5mm, IPC Low Density)
pins: 1 AGND (power) "Analog Power Ground Pins. Ground reference point for all analog I/O. All analog I/O should be referenced to AGND and should be connected to the analog ground plane of the system. In addition, the AGND, DGND, and OGND (See Datasheet)", 2 AVDD (power) "Analog Power Pins. Nominally 4.75 V to 5.25 V and decoupled with 10 uF and 100 nF capacitors.", 3 MODE0 (in) "Data Input/Output Interface Mode Selection.", 4 MODE1 (in) "Data Input/Output Interface Mode Selection.", 5 D0/OB/~{2C} (io) "In 18-bit parallel mode, this output is used as Bit 0 of the parallel port data output bus, and the data coding is straight binary. In all other modes, this pin allows the choice of straight binary or twos complement. When (See Datasheet)", 6 OGND (power) "Input/Output Interface Digital Power Ground. Ground reference point for digital outputs. Should be connected to the system digital ground ideally at the same potential as AGND and DGND.", 7 OGND (power) "Input/Output Interface Digital Power Ground. Ground reference point for digital outputs. Should be connected to the system digital ground ideally at the same potential as AGND and DGND.", 8 D1/A0 (io) "When MODE[1:0] = 0, this pin is Bit 1 of the parallel port data output bus. In all other modes, this input pin controls the form in which data is output as shown in Table 7.", 9 D2/A1 (io) "When MODE[1:0] = 0, this pin is Bit 2 of the parallel port data output bus. When MODE[1:0] = 1 or 2, this input pin controls the form in which data is output as shown in Table 7.", 10 D3 (hiz) "When MODE[1:0] = 0, 1, or 2, this output is used as Bit 3 of the parallel port data output bus. This pin is always an output, regardless of the interface mode.", 11 D4/DIVSCLK0 (io) "When MODE[1:0] = 0, 1, or 2, these pins are Bit 4 of the parallel port data output bus. When MODE[1:0] = 3, serial data clock division selection. When using serial master read after convert mode (EXT/I\N\T\ = low, RDC/SDIN = (See Datasheet)", 12 D5/DIVSCLK1 (io) "When MODE[1:0] = 0, 1, or 2, these pins are Bit 5 of the parallel port data output bus. When MODE[1:0] = 3, serial data clock division selection. When using serial master read after convert mode (EXT/I\N\T\ = low, RDC/SDIN = (See Datasheet)", 13 D6/EXT/~{INT} (io) "When MODE[1:0] = 0, 1, or 2, this output is used as Bit 6 of the parallel port data output bus. When MODE[1:0] = 3, Serial Data Clock Source Select. In serial mode, this input is used to select the internally generated (See Datasheet)", 14 D7/INVSYNC (io) "When MODE[1:0] = 0, 1, or 2, this output is used as Bit 7 of the parallel port data output bus. When MODE[1:0] = 3, Serial Data Invert Sync Select. In serial master mode (MODE[1:0] = 3, EXT/I\N\T\ = low), this input is used (See Datasheet)", 15 D8/INVSCLK (io) "When MODE[1:0] = 0, 1, or 2, this output is used as Bit 8 of the parallel port data output bus. When MODE[1:0] = 3, Invert SDCLK/SCCLK Select. This input is used to invert both SDCLK and SCCLK. When INVSCLK = low, the rising (See Datasheet)", 16 D9/RDC/SDIN (io) "When MODE[1:0] = 0, 1, or 2, this output is used as Bit 9 of the parallel port data output bus. When MODE[1:0] = 3, Serial Data Read During Convert. In serial master mode (MODE[1:0] = 3, EXT/I\N\T\ = low), RDC is used to (See Datasheet)", 17 OGND (power) "Input/Output Interface Digital Power Ground. Ground reference point for digital outputs. Should be connected to the system digital ground ideally at the same potential as AGND and DGND.", 18 OVDD (power) "Input/Output Interface Digital Power. Nominally at the same supply as the supply of the host interface 2.5 V, 3 V, or 5 V and decoupled with 10 uF and 100 nF capacitors.", 19 DVDD (power) "Digital Power. Nominally at 4.75 V to 5.25 V and decoupled with 10 uF and 100 nF capacitors. Can be supplied from AVDD.", 20 DGND (power) "Digital Power Ground. Ground reference point for digital outputs. Should be connected to system digital ground ideally at the same potential as AGND and OGND.", 21 D10/SDOUT (hiz) "When MODE[1:0] = 0, 1, or 2, this output is used as Bit 10 of the parallel port data output bus. When MODE[1:0] = 3, Serial Data Output. In all serial modes, this pin is used as the serial data output synchronized to SDCLK. (See Datasheet)", 22 D11/SDCLK (io) "When MODE[1:0] = 0, 1, or 2, this output is used as Bit 11 of the parallel port data output bus. When MODE[1:0] = 3, Serial Data Clock. In all serial modes, this pin is used as the serial data clock input or output, (See Datasheet)", 23 D12/SYNC (hiz) "When MODE[1:0] = 0, 1, or 2, this output is used as Bit 12 of the parallel port data output bus. When MODE[1:0] = 3, Serial Data Frame Synchronization. In serial master mode (MODE[1:0] = 3, EXT/I\N\T\= low), this output is (See Datasheet)", 24 D13/RDERROR (hiz) "When MODE[1:0] = 0, 1, or 2, this output is used as Bit 13 of the parallel port data output bus. When MODE[1:0] = 3, Serial Data Read Error. In serial slave mode (MODE[1:0] = 3, EXT/I\N\T\ = high), this output is used as an (See Datasheet)", 25 D14/HW/~{SW} (io) "When MODE[1:0] = 0, 1, or 2, this output is used as Bit 14 of the parallel port data output bus. When MODE[1:0] = 3, Serial Configuration Hardware/Software Select. In serial mode, this input is used to configure the AD7631 (See Datasheet)", 26 D15/SCIN (io) "When MODE[1:0] = 0, 1, or 2, this output is used as Bit 15 of the parallel port data output bus. When MODE[1:0] = 3, Serial Configuration Data Input. In serial software configuration mode (HW/S\W\ = low), this input is used (See Datasheet)", 27 D16/SCCLK (io) "When MODE[1:0] = 0, 1, or 2, this output is used as Bit 16 of the parallel port data output bus. When MODE[1:0] = 3, Serial Configuration Clock. In serial software configuration mode (HW/S\W\ = low) this input is used to (See Datasheet)", 28 D17/~{SCCS} (io) "When MODE[1:0] = 0, 1, or 2, this output is used as Bit 17 of the parallel port data output bus. When MODE[1:0] = 3, Serial Configuration Chip Select. In serial software configuration mode (HW/S\W\ = low), this input enables (See Datasheet)", 29 BUSY (hiz) "Busy Output. Transitions high when a conversion is started and remains high until the conversion is complete and the data is latched into the on-chip shift register. The falling edge of BUSY can be used as a data-ready clock (See Datasheet)", 30 TEN (in) "Input Range Select. Used in conjunction with BIPOLAR per the following.", 31 ~{RD} (in) "Read Data. When C\S\ and R\D\ are both low, the interface parallel or serial output bus is enabled.", 32 ~{CS} (in) "Chip Select. When C\S\ and R\D\ are both low, the interface parallel or serial output bus is enabled. C\S\ is also used to gate the external clock in slave serial mode (not used for serial configurable port).", 33 RESET (in) "Reset Input. When high, reset the AD7631. Current conversion, if any, is aborted. The falling edge of RESET resets the data outputs to all zeros (with OB/2\C\ = high) and clears the configuration register. See the section. (See Datasheet)", 34 PD (in) "Power-Down Input. When PD = high, power down the ADC. Power consumption is reduced and conversions are inhibited after the current one is completed. The digital interface remains active during power down.", 35 ~{CNVST} (in) "Conversion Start. A falling edge on C\N\V\S\T\ puts the internal sample-and-hold into the hold state and initiates a conversion.", 36 BIPOLAR (in) "Input Range Select. See description for Pin 30.", 37 REF (io) "Reference Input/Output. When PDREF/PDBUF = low, the internal reference and buffer are enabled producing 5 V on this pin. When PDREF/PDBUF = high, the internal reference and buffer are disabled, allowing an externally (See Datasheet)", 38 REFGND (power) "Reference Input Analog Ground. Connected to analog ground plane.", 39 IN- (in) "Analog Input. Referenced to IN+. In the 0 V to 5 V input range, IN- is between 0 V and VREF V centered about VREF/2. In the 0 V to 10 V range, IN- is between 0 V and 2 VREF V centered about VREF. In the +/-5 V and +/-10 V (See Datasheet)", 40 VCC (power) "High Voltage Positive Supply. Normally +7 V to +15 V.", 41 VEE (power) "High Voltage Negative Supply. Normally 0 V to -15 V (0 V in unipolar ranges).", 42 AGND (power) "Analog Power Ground Pins. Ground reference point for all analog I/O. All analog I/O should be referenced to AGND and should be connected to the analog ground plane of the system. In addition, the AGND, DGND, and OGND (See Datasheet)", 43 IN+ (in) "Analog Input. Referenced to IN-. In the 0 V to 5 V input range, IN+ is between 0 V and VREF V centered about VREF/2. In the 0 V to 10 V range, IN+ is between 0 V and 2 VREF V centered about VREF. In the +/-5 V and +/-10 V (See Datasheet)", 44 AVDD (power) "Analog Power Pins. Nominally 4.75 V to 5.25 V and decoupled with 10 uF and 100 nF capacitors.", 45 TEMP (out) "Temperature Sensor Analog Output. When the internal reference is enabled (PDREF = PDBUF = low), this pin outputs a voltage proportional to the temperature of the AD7631. See the Voltage Reference Input/Output section.", 46 REFBUFIN (in) "Reference Buffer Input. When using an external reference with the internal reference buffer (PDBUF = low, PDREF = high), applying 2.5 V on this pin produces 5 V on the REF pin. See the Voltage Reference Input/Output section.", 47 PDREF (in) "Internal Reference Power-Down Input. When low, the internal reference is enabled. When high, the internal reference is powered down, and an external reference must be used.", 48 PDBUF (in) "Internal Reference Buffer Power-Down Input. When low, the buffer is enabled (must be low when using internal reference). When high, the buffer is powered down."